# EAGLE library part JTAG-1.27-10-PIN-HEADER (library JTAG 1.27mm 10pin header)
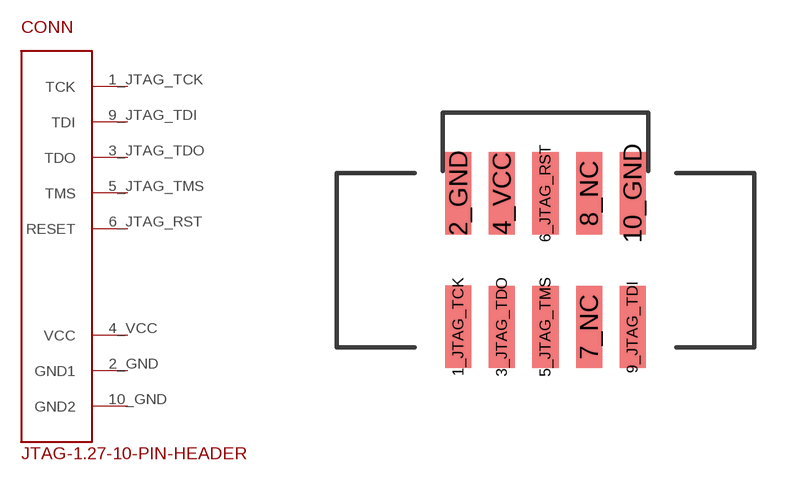
[diagram p0: symbol with the pads of TH-JTAG; footprint TH-JTAG]

Designator prefix CONN

## JTAG-1.27-10-PIN-HEADER  [TH-JTAG]
1_JTAG_TCK  TCK
2_GND  GND1  pwr
3_JTAG_TDO  TDO
4_VCC  VCC
5_JTAG_TMS  TMS
6_JTAG_RST  RESET
9_JTAG_TDI  TDI
10_GND  GND2  pwr

## Footprint TH-JTAG (pad centres in mm)
smd 0.76 x 2.4: 1_JTAG_TCK -2.54,-1.94; 2_GND -2.54,1.955; 3_JTAG_TDO -1.27,-1.95; 4_VCC -1.27,1.95; 5_JTAG_TMS 0,-1.95; 6_JTAG_RST 0,1.95; 7_NC 1.27,-1.95; 8_NC 1.27,1.95; 9_JTAG_TDI 2.54,-1.95; 10_GND 2.54,1.95